# Altium integrated library Diodes.IntLib: 17 symbols
Pins are listed as number, name and electrical type; pins without a type are passive.

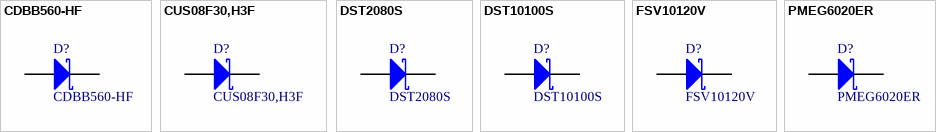
[diagram p0: symbols CDBB560-HF to PMEG6020ER]

## CDBB560-HF
designator D?
Manufacturer: Comchip Technology; PackageDescription: DO-214-AA/SMB; 2 C-Bend Leads; Body 5.3 x 3.6 mm, inc. leads (LxW); PackageReference: DO-214AA; PartNumber: CDBB560-HF; Mounting Technology: Surface Mount
simulation model SKYDIODE (Diode)
signal-integrity model D Schottky
footprint DO-214AA (DO-214-AA/SMB; 2 C-Bend Leads; Body 5.3 x 3.6 mm, inc. leads (LxW))
pins: 1 A, 2 K

## CUS08F30,H3F
designator D?
Manufacturer: Toshiba; PackageReference: SOD-323; PartNumber: CUS08F30,H3F; Mounting Technology: Surface Mount
simulation model SKYDIODE (Diode)
signal-integrity model D Schottky
footprint SOD-323 (SODFL, 2-Leads, Body 1.30x2.57mm, IPC Medium Density)
pins: 1 K, 2 A

## DST2080S
designator D?
Manufacturer: Littelfuse; PackageReference: TO-277B; PartNumber: DST2080S; Mounting Technology: Surface Mount
simulation model SKYDIODE (Diode)
signal-integrity model D Schottky
footprint TO-277B
pins: 1 K, 2 A

## DST10100S
designator D?
Manufacturer: Littelfuse; PackageReference: TO-277B; PartNumber: DST10100S; Mounting Technology: Surface Mount
simulation model SKYDIODE (Diode)
signal-integrity model D Schottky
footprint TO-277B
pins: 1 K, 2 A

## FSV10120V
designator D?
Schottky Diodes & Rectifiers 10 Amp 120V Schottky Rectifier; Manufacturer: Fairchild Semiconductor; PackageReference: TO-277-3; PartNumber: FSV10120V; Mounting Technology: Surface Mount
simulation model SKYDIODE (Diode)
signal-integrity model D Schottky
footprint TO-277
pins: 1 K, 2 A

## PMEG6020ER
designator D?
PartNumber: PMEG6020ER,115; Manufacturer: NXP Semiconductors; PackageDescription: SOD, 2-Leads, Body 2.69x1.6mm; PackageReference: SOD-123W; Mounting Technology: Surface Mount
simulation model SKYDIODE (Diode)
signal-integrity model D Schottky
footprint SOD-123 (SOD, 2-Leads, Body 2.69x1.6mm)
pins: 1 K, 2 A


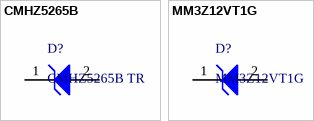
[diagram p1: symbols CMHZ5265B to MM3Z12VT1G]

## CMHZ5265B
designator D?, comment CMHZ5265B TR
Zener Diodes 500mW Zener Diode 185mA 58.9V to 2V; Manufacturer: Central Semiconductor; PartNumber: CMHZ5265B; Mounting Technology: Surface Mount; PackageReference: SOD-123; PackageDescription: SOD, 2-Leads, Body 2.69x1.6mm
footprint SOD-123 (SOD, 2-Leads, Body 2.69x1.6mm)
pins: 1 K, 2 A

## MM3Z12VT1G
designator D?
Zener Voltage Regulator, 300 mW, 2-Pin SOD-323, Tape and Reel; Manufacturer: ON Semiconductor; PartNumber: MM3Z12VT1G; Mounting Technology: Surface Mount; PackageReference: SOD-323; PackageDescription: SOD, 2-Leads
footprint SOD-323 (SODFL, 2-Leads, Body 1.30x2.57mm, IPC Medium Density)
pins: 1 K, 2 A


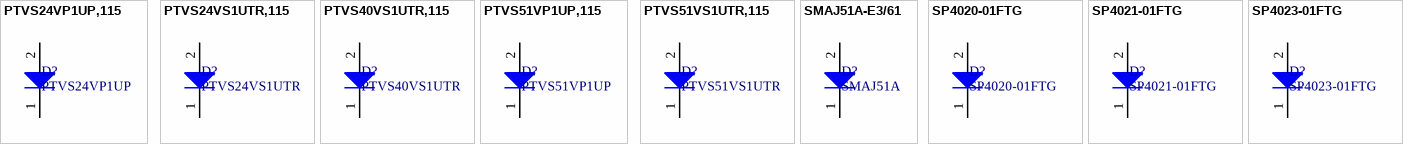
[diagram p2: symbols PTVS24VP1UP,115 to SP4023-01FTG]

## PTVS24VP1UP,115
designator D?, comment PTVS24VP1UP
PartNumber: PTVS24VP1UP,115; Manufacturer: NXP; PackageReference: SOD-128; Mounting Technology: Surface Mount; PackageDescription: SOD128, 2-Leads
footprint SOD-128 (SODFL, 2-Leads, Body 2.50x4.70mm, IPC Medium Density)
pins: 1 K, 2 A

## PTVS24VS1UTR,115
designator D?, comment PTVS24VS1UTR
PartNumber: PTVS24VS1UTR,115; Manufacturer: NXP; PackageReference: SOD-123W; Mounting Technology: Surface Mount; PackageDescription: SOD123W, 2-Leads
footprint SOD-123W (SODFL, 2-Leads, Body 1.70x3.50mm, IPC Medium Density)
pins: 1 K, 2 A

## PTVS40VS1UTR,115
designator D?, comment PTVS40VS1UTR
PartNumber: PTVS40VS1UTR,115; Manufacturer: NXP; PackageReference: SOD-123W; Mounting Technology: Surface Mount; PackageDescription: SOD123W, 2-Leads
footprint SOD-123W (SODFL, 2-Leads, Body 1.70x3.50mm, IPC Medium Density)
pins: 1 K, 2 A

## PTVS51VP1UP,115
designator D?, comment PTVS51VP1UP
PartNumber: PTVS51VP1UP,115; Manufacturer: NXP; PackageReference: SOD-128; Mounting Technology: Surface Mount; PackageDescription: SOD128, 2-Leads
footprint SOD-128 (SODFL, 2-Leads, Body 2.50x4.70mm, IPC Medium Density)
pins: 1 K, 2 A

## PTVS51VS1UTR,115
designator D?, comment PTVS51VS1UTR
PartNumber: PTVS51VS1UTR,115; Manufacturer: NXP; PackageReference: SOD-123W; Mounting Technology: Surface Mount; PackageDescription: SOD123W, 2-Leads
footprint SOD-123W (SODFL, 2-Leads, Body 1.70x3.50mm, IPC Medium Density)
pins: 1 K, 2 A

## SMAJ51A-E3/61
designator D?, comment SMAJ51A
PartNumber: SMAJ51A-E3/61; Manufacturer: Vishay; PackageReference: DO-214AC; Mounting Technology: Surface Mount; PackageDescription: DO-214AC, 2 Leads
footprint DO-214AC (DO-214AC, 2-Leads, Body 4.5x2.79mm, IPC Medium Density)
pins: 1 K, 2 A

## SP4020-01FTG
designator D?
Manufacturer: Littelfuse; PartNumber: SP4020-01FTG; PackageReference: SOD-323-2; Mounting Technology: Surface Mount
footprint SOD-323 (SODFL, 2-Leads, Body 1.30x2.57mm, IPC Medium Density)
pins: 1 K, 2 A

## SP4021-01FTG
designator D?
Manufacturer: Littelfuse; PartNumber: SP4021-01FTG; PackageReference: SOD-323-2; Mounting Technology: Surface Mount
footprint SOD-323 (SODFL, 2-Leads, Body 1.30x2.57mm, IPC Medium Density)
pins: 1 K, 2 A

## SP4023-01FTG
designator D?
Manufacturer: Littelfuse; PackageReference: SOD-323-2; PartNumber: SP4023-01FTG; Mounting Technology: Surface Mount; PackageDescription: SOD323, 2-Leads
footprint SOD-323 (SODFL, 2-Leads, Body 1.30x2.57mm, IPC Medium Density)
pins: 1 K, 2 A